# EAGLE library part ESP32-WROOM-32 (library ESP32)
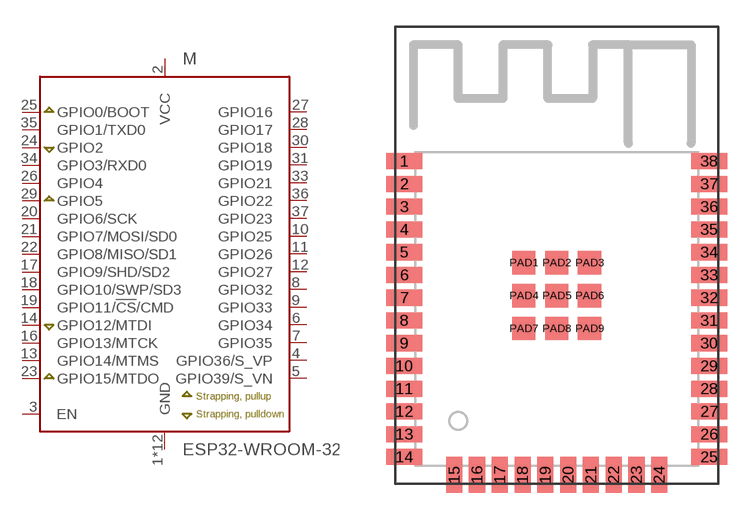
[diagram p0: symbol with the pads of ESP-WROOM-32; footprint ESP-WROOM-32]

Designator prefix M

## ESP32-WROOM-32 (MF: ESPRESSIF; MPN: ESP32-WROOM-32)  [ESP-WROOM-32]
1  GND  pwr
2  VCC  pwr
3  EN  in
4  GPIO36/S_VP
5  GPIO39/S_VN
6  GPIO34
7  GPIO35
8  GPIO32
9  GPIO33
10  GPIO25
11  GPIO26
12  GPIO27
13  GPIO14/MTMS
14  GPIO12/MTDI
15  GND  pwr
16  GPIO13/MTCK
17  GPIO9/SHD/SD2
18  GPIO10/SWP/SD3
19  GPIO11/!CS!/CMD
20  GPIO6/SCK
21  GPIO7/MOSI/SD0
22  GPIO8/MISO/SD1
23  GPIO15/MTDO
24  GPIO2
25  GPIO0/BOOT
26  GPIO4
27  GPIO16
28  GPIO17
29  GPIO5
30  GPIO18
31  GPIO19
33  GPIO21
34  GPIO3/RXD0
35  GPIO1/TXD0
36  GPIO22
37  GPIO23
38  GND  pwr
PAD1  GND  pwr
PAD2  GND  pwr
PAD3  GND  pwr
PAD4  GND  pwr
PAD5  GND  pwr
PAD6  GND  pwr
PAD7  GND  pwr
PAD8  GND  pwr
PAD9  GND  pwr

## Footprint ESP-WROOM-32 (pad centres in mm)
smd 2 x 0.9: 1 -8.5,5; 2 -8.5,3.73; 3 -8.5,2.46; 4 -8.5,1.19; 5 -8.5,-0.08; 6 -8.5,-1.35; 7 -8.5,-2.62; 8 -8.5,-3.89; 9 -8.5,-5.16; 10 -8.5,-6.43; 11 -8.5,-7.7; 12 -8.5,-8.97; 13 -8.5,-10.24; 14 -8.5,-11.51; 25 8.5,-11.51; 26 8.5,-10.24; 27 8.5,-8.97; 28 8.5,-7.7; 29 8.5,-6.43; 30 8.5,-5.16; 31 8.5,-3.89; 32 8.5,-2.62; 33 8.5,-1.35; 34 8.5,-0.08; 35 8.5,1.19; 36 8.5,2.46; 37 8.5,3.73; 38 8.5,5
smd 0.9 x 2: 15 -5.715,-12.5; 16 -4.445,-12.5; 17 -3.175,-12.5; 18 -1.905,-12.5; 19 -0.635,-12.5; 20 0.635,-12.5; 21 1.905,-12.5; 22 3.175,-12.5; 23 4.445,-12.5; 24 5.715,-12.5
smd 1.3 x 1.3: PAD1 -1.835,-0.665; PAD2 0,-0.665; PAD3 1.835,-0.665; PAD4 -1.835,-2.5; PAD5 0,-2.5; PAD6 1.835,-2.5; PAD7 -1.835,-4.335; PAD8 0,-4.335; PAD9 1.835,-4.335